# EAGLE library part ARDUINO_NANO2 (library arduino (3))
Arduino Nano2 Auto generated by modulcreator.ulp \;
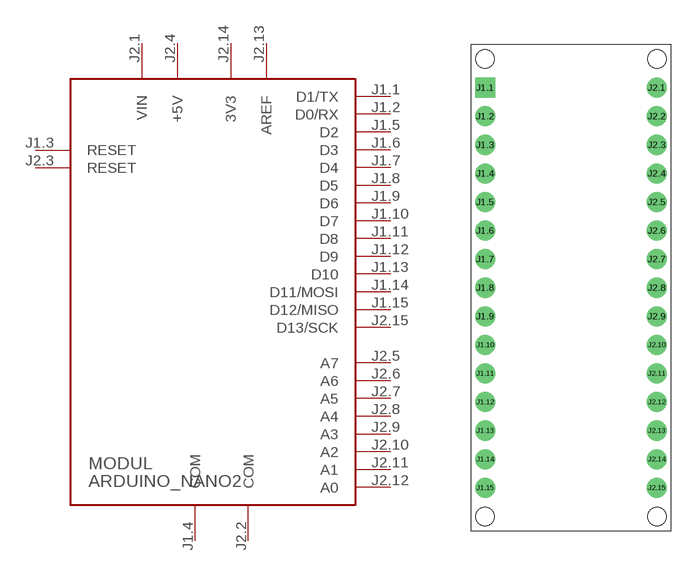
[diagram p0: symbol with the pads of ARDUINO_NANO2; footprint ARDUINO_NANO2]

Designator prefix MODUL

## ARDUINO_NANO2 (ANZAHL: 2; MODUL: TRUE; STECKX0: -76200; STECKX1: 76200; STECKY0: 177800; STECKY1: 177800)  [ARDUINO_NANO2]
J1.1  D1/TX
J1.2  D0/RX
J1.3  RESET
J1.4  COM  pwr
J1.5  D2
J1.6  D3
J1.7  D4
J1.8  D5
J1.9  D6
J1.10  D7
J1.11  D8
J1.12  D9
J1.13  D10
J1.14  D11/MOSI
J1.15  D12/MISO
J2.1  VIN  pwr
J2.2  COM  pwr
J2.3  RESET
J2.4  +5V  pwr
J2.5  A7
J2.6  A6
J2.7  A5
J2.8  A4
J2.9  A3
J2.10  A2
J2.11  A1
J2.12  A0
J2.13  AREF  pwr
J2.14  3V3  pwr
J2.15  D13/SCK

## Footprint ARDUINO_NANO2 (pad centres in mm)
Arduino Nano2 Auto generated by modulcreator.ulp \;
drill 0.914 pad 1.778 square: J1.1 -7.62,17.78
drill 0.914 pad 1.778: J1.2 -7.62,15.24; J1.3 -7.62,12.7; J1.4 -7.62,10.16; J1.5 -7.62,7.62; J1.6 -7.62,5.08; J1.7 -7.62,2.54; J1.8 -7.62,0; J1.9 -7.62,-2.54; J1.10 -7.62,-5.08; J1.11 -7.62,-7.62; J1.12 -7.62,-10.16; J1.13 -7.62,-12.7; J1.14 -7.62,-15.24; J1.15 -7.62,-17.78; J2.1 7.62,17.78; J2.2 7.62,15.24; J2.3 7.62,12.7; J2.4 7.62,10.16; J2.5 7.62,7.62; J2.6 7.62,5.08; J2.7 7.62,2.54; J2.8 7.62,0; J2.9 7.62,-2.54; J2.10 7.62,-5.08; J2.11 7.62,-7.62; J2.12 7.62,-10.16; J2.13 7.62,-12.7; J2.14 7.62,-15.24; J2.15 7.62,-17.78
hole 1.651 at -7.62,-20.32
hole 1.651 at 7.62,-20.32
hole 1.651 at 7.62,20.32
hole 1.651 at -7.62,20.32